# Altium schematic symbol library PBHV8560Z.Schlib: 1 symbol
Pins are listed as number, name and electrical type; pins without a type are passive.

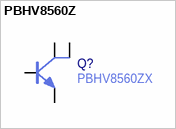
[diagram p0: symbol PBHV8560Z]

## PBHV8560Z
designator Q?  Manufacturer Part Number: PBHV8560ZX  (hidden comment: PBHV8560Z)
pins: 1 B, 2 C, 3 E, 4 C